# EAGLE library part ANO_ENCODER (library pimoroni-mechanical)
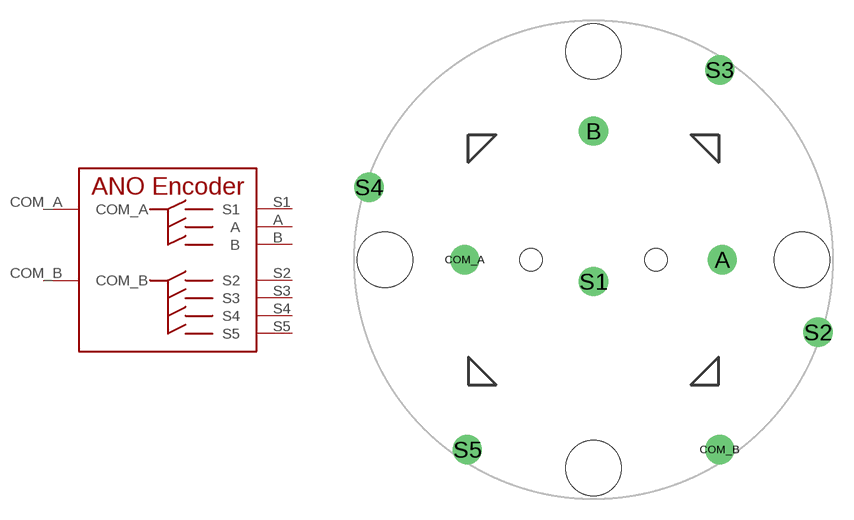
[diagram p4: symbol with the pads of ANO_ENCODER; footprint ANO_ENCODER]

Designator prefix ENCODER

## ANO_ENCODER  [ANO_ENCODER]
A  A
B  B
COM_A  COM_A
COM_B  COM_B
S1  S1
S2  S2
S3  S3
S4  S4
S5  S5

## Footprint ANO_ENCODER (pad centres in mm)
drill 1.4: A 9.26,0; B 0,9.26; COM_A -9.26,0; COM_B 9.07,-13.67; S1 0,-1.57; S2 16.15,-5.22; S3 9.07,13.67; S4 -16.15,5.22; S5 -9.07,-13.67
hole 1.6 at -4.5,0
hole 1.6 at 4.5,0
hole 4 at 0,15
hole 4 at 15,0
hole 4 at 0,-15
hole 4 at -15,0